# EAGLE library part ESP32 (library custom)
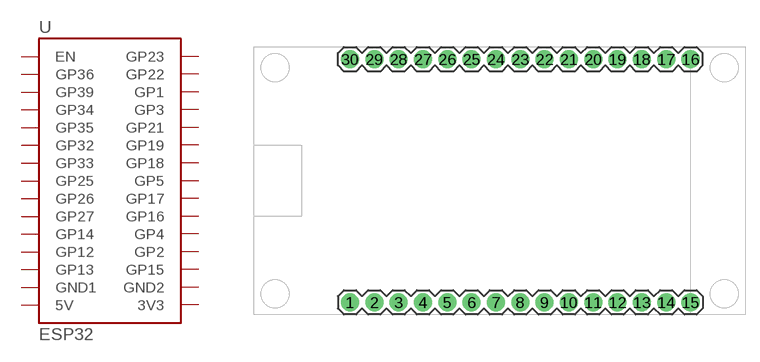
[diagram p137: symbol with the pads of ESP32-30P; footprint ESP32-30P]

Designator prefix U

## ESP32  [ESP32-30P]
1  3V3
2  GND2
3  GP15
4  GP2
5  GP4
6  GP16
7  GP17
8  GP5
9  GP18
10  GP19
11  GP21
12  GP3
13  GP1
14  GP22
15  GP23
16  EN
17  GP36
18  GP39
19  GP34
20  GP35
21  GP32
22  GP33
23  GP25
24  GP26
25  GP27
26  GP14
27  GP12
28  GP13
29  GND1
30  5V

## Footprint ESP32-30P (pad centres in mm)
drill 1.016 pad 1.88: 1 0,0; 2 2.54,0; 3 5.08,0; 4 7.62,0; 5 10.16,0; 6 12.7,0; 7 15.24,0; 8 17.78,0; 9 20.32,0; 10 22.86,0; 11 25.4,0; 12 27.94,0; 13 30.48,0; 14 33.02,0; 15 35.56,0; 16 35.56,25.4; 17 33.02,25.4; 18 30.48,25.4; 19 27.94,25.4; 20 25.4,25.4; 21 22.86,25.4; 22 20.32,25.4; 23 17.78,25.4; 24 15.24,25.4; 25 12.7,25.4; 26 10.16,25.4; 27 7.62,25.4; 28 5.08,25.4; 29 2.54,25.4; 30 0,25.4